# Altium footprint library SC_WDIP8.PcbLib: 1 footprints
Each footprint in its own frame and in the unit in brackets; x right, y up, seen from the top. Pads: shape width x height; smd on the part's side, far side on the other; paste and mask are expansions set on the pad; w line width, h text height; cw(c..) or ccw(c..) is an arc to the next point about the centre after c.
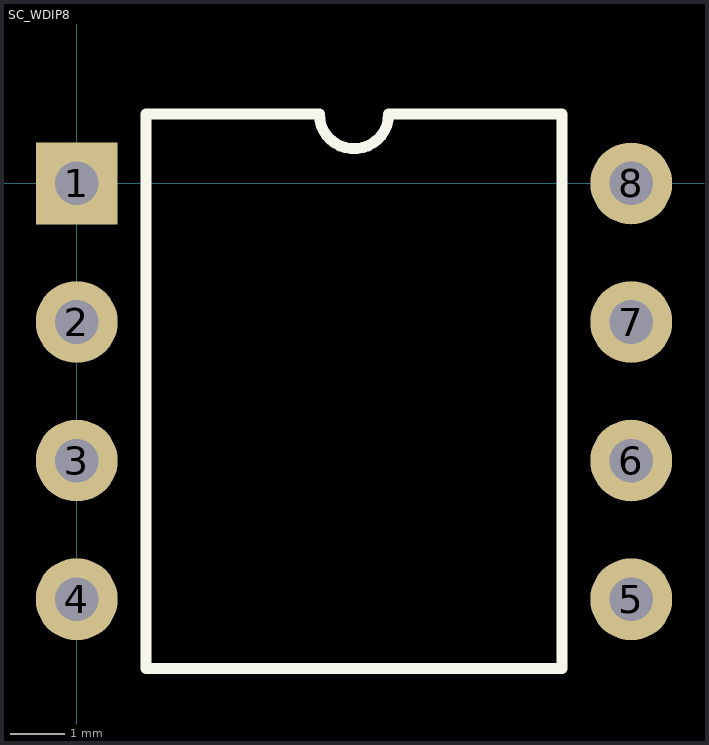
[diagram p0: the footprint, top view; thin cyan lines are the x and y axes]

## SC_WDIP8 [mm] "DIP; 8 Leads; Row Spacing 0.4\"; Pitch 2.54 mm"
height 4.42
pads (8):
  rect 1.5x1.5 hole 0.8: 1(0,0)
  round 1.5 hole 0.8: 2(0,-2.54) 3(0,-5.08) 4(0,-7.62) 5(10.16,-7.62) 6(10.16,-5.08) 7(10.16,-2.54) 8(10.16,0)
Top Overlay:
  lines w0.2: 1.27,-8.89 1.27,1.27 4.445,1.27 ccw(c5.08,1.27) 5.715,1.27 8.89,1.27 8.89,-8.89 1.27,-8.89